# EAGLE library part SPARKFUN-IC-AMPLIFIERS_LMV324 (library 154N_NAU7802)
IC LMV324 Quad Op Amp Jellybean quad op-amp Datasheet <http://cdn.sparkfun.com/datasheets/Sensors/Sound/LMV324.pdf> SparkFun Products SparkFun Sensor Kit <https://www.sparkfun.com/products/13754> (DEV-13754) SparkFun Inventor's Kit for Arduino 101 <https://www.sparkfun.com/products/13844> (KIT-13844) SparkFun Sound Detector <https://www.sparkfun.com/products/12642> (SEN-12642)
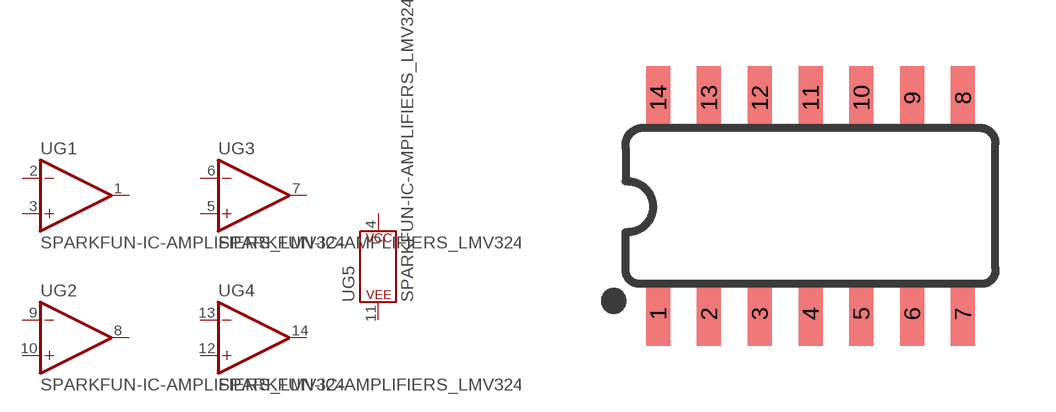
[diagram p1: symbol with the pads of SPARKFUN-IC-AMPLIFIERS_SO14; footprint SPARKFUN-IC-AMPLIFIERS_SO14]

Designator prefix U; gates G1=SPARKFUN-IC-AMPLIFIERS_OP-AMP G2=SPARKFUN-IC-AMPLIFIERS_OP-AMP G3=SPARKFUN-IC-AMPLIFIERS_OP-AMP G4=SPARKFUN-IC-AMPLIFIERS_OP-AMP G5=SPARKFUN-IC-AMPLIFIERS_POWER_CONSORT

## SPARKFUN-IC-AMPLIFIERS_LMV324 (PROD_ID: IC-08227; VALUE: LMV324)  [SPARKFUN-IC-AMPLIFIERS_SO14]
1  G1:OUT  out
2  G1:-IN  in
3  G1:+IN  in
4  G5:P$V+
5  G3:+IN  in
6  G3:-IN  in
7  G3:OUT  out
8  G2:OUT  out
9  G2:-IN  in
10  G2:+IN  in
11  G5:P$V-
12  G4:+IN  in
13  G4:-IN  in
14  G4:OUT  out

## Footprint SPARKFUN-IC-AMPLIFIERS_SO14 (pad centres in mm)
SOIC, 0.15 inch width
smd 0.6 x 1.6: 1 -3.175,-2.7; 2 -1.905,-2.7; 3 -0.635,-2.7; 4 0.635,-2.7; 5 1.905,-2.7; 6 3.175,-2.7; 7 4.445,-2.7; 8 4.445,2.7; 9 3.175,2.7; 10 1.905,2.7; 11 0.635,2.7; 12 -0.635,2.7; 13 -1.905,2.7; 14 -3.175,2.7